# EAGLE library part PTH08000W (library PTH0800W)
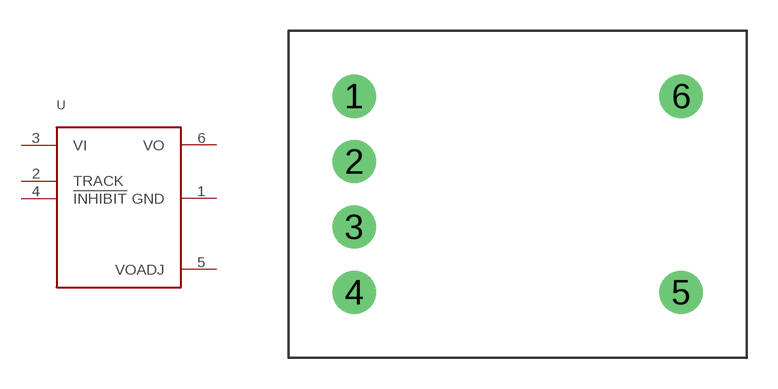
[diagram p0: symbol with the pads of PTH08000W; footprint PTH08000W]

Designator prefix -

## PTH08000W  [PTH08000W]
1  GND
2  TRACK
3  VI
4  !INHIBIT
5  VOADJ
6  VO

## Footprint PTH08000W (pad centres in mm)
drill 1.4 round: 1 0,9.525; 2 0,6.35; 3 0,3.175; 4 0,0; 5 15.875,0; 6 15.875,9.525